# Altium footprint library lpc54110.PcbLib: 28 footprints (part 1 of 2)
Each footprint in its own frame and in the unit in brackets; x right, y up, seen from the top. Pads: shape width x height; smd on the part's side, far side on the other; paste and mask are expansions set on the pad; w line width, h text height; cw(c..) or ccw(c..) is an arc to the next point about the centre after c.
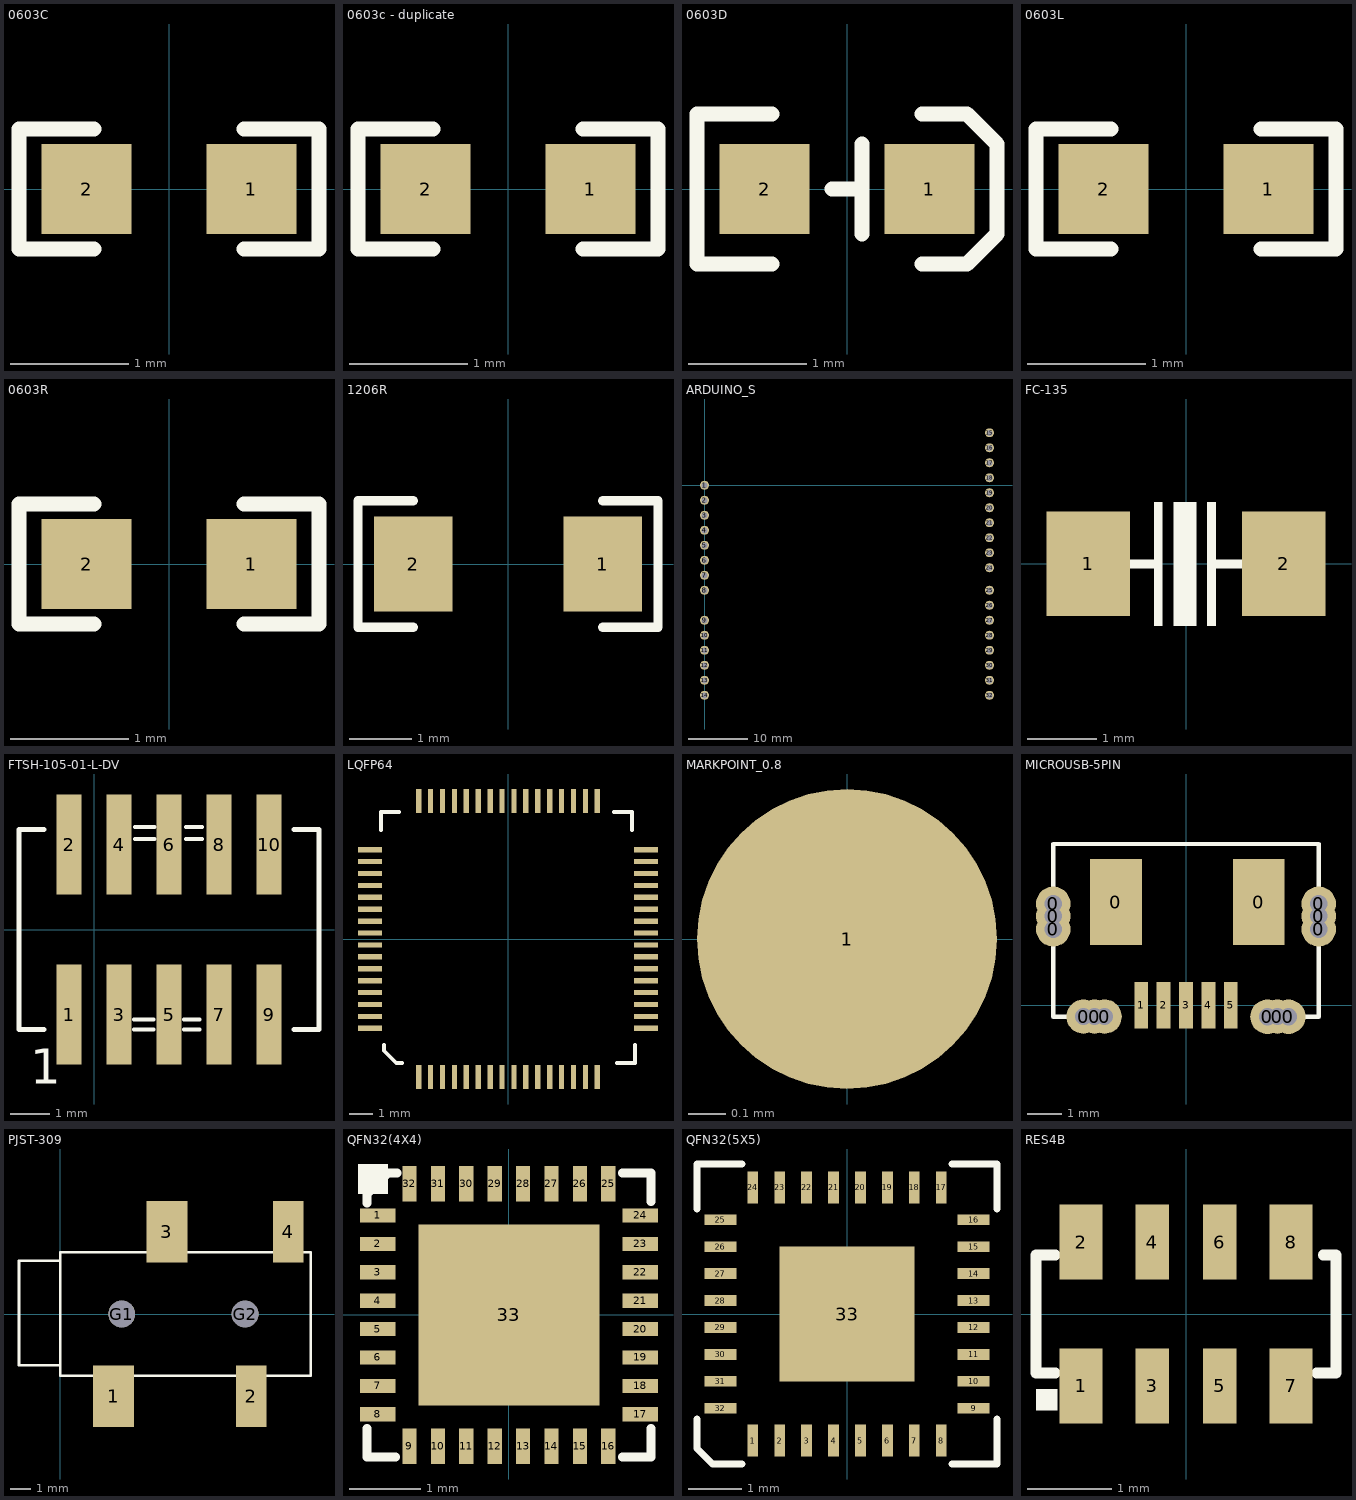
[diagram p0: the footprints below, top view; thin cyan lines are the x and y axes]

## 0603C [mil]
pads (2):
  rect 30x30 smd: 1(27.5,0) 2(-27.5,0)
Top Overlay:
  lines w5: -25,-20 -50,-20 -50,20 -25,20 ; 25,-20 50,-20 50,20 25,20

## 0603c - duplicate [mil]
pads (2):
  rect 30x30 smd: 1(27.5,0) 2(-27.5,0)
Top Overlay:
  lines w5: -25,-20 -50,-20 -50,20 -25,20 ; 25,-20 50,-20 50,20 25,20

## 0603D [mil]
pads (2):
  rect 30x30 smd: 1(27.5,0) 2(-27.5,0)
Top Overlay:
  lines w5: -25,-25 -50,-25 -50,25 -25,25 ; -5,0 5,0 ; 5,-15 5,15 ; 25,-25 40,-25 50,-15 50,15 40,25 25,25

## 0603L [mil]
pads (2):
  rect 30x30 smd: 1(27.5,0) 2(-27.5,0)
Top Overlay:
  lines w5: -25,-20 -50,-20 -50,20 -25,20 ; 25,-20 50,-20 50,20 25,20

## 0603R [mil]
pads (2):
  rect 30x30 smd: 1(27.5,0) 2(-27.5,0)
Top Overlay:
  lines w5: -25,-20 -50,-20 -50,20 -25,20 ; 25,-20 50,-20 50,20 25,20

## 1206R [mil]
pads (2):
  rect 50x60 smd: 1(60,0) 2(-60,0)
Top Overlay:
  lines w6: -60,-40 -95,-40 -95,40 -60,40 ; 60,-40 95,-40 95,40 60,40

## ARDUINO_S [mil]
pads (32):
  round 60 hole 40: 1(0,0) 2(0,-100) 3(0,-200) 4(0,-300) 5(0,-400) 6(0,-500) 7(0,-600) 8(0,-700) 9(0,-900) 10(0,-1000) 11(0,-1100) 12(0,-1200) 13(0,-1300) 14(0,-1400) 15(1900,350) 16(1900,250) 17(1900,150) 18(1900,50) 19(1900,-50) 20(1900,-150) 21(1900,-250) 22(1900,-350) 23(1900,-450) 24(1900,-550) 25(1900,-700) 26(1900,-800) 27(1900,-900) 28(1900,-1000) 29(1900,-1100) 30(1900,-1200) 31(1900,-1300) 32(1900,-1400)
Bottom Overlay:
  lines w6: -50,-860 -50,-850 ; -50,-50 50,-50 ; -50,40 -50,50 ; 1850,-660 1850,-650 ; 1850,390 1850,400 ; -50,-850 -50,-1450 50,-1450 50,-850 -50,-850 ; -50,50 50,50 50,-750 -50,-750 -50,50 ; 1850,-650 1950,-650 1950,-1450 1850,-1450 1850,-650 ; 1850,400 1850,-600 1950,-600 1950,400 1850,400

## FC-135 [mm]
pads (2):
  rect 1.2x1.5 smd: 1(-1.4,0) 2(1.4,0)
Top Overlay:
  rectangle: -0.055,-0.89 0.072,0.888
  rectangle: -0.461,-0.89 -0.334,0.888
  rectangle: 0.301,-0.89 0.428,0.888
  rectangle: -0.182,-0.89 -0.055,0.888
  rectangle: 0.021,-0.89 0.148,0.888
  lines w0.127: -0.787,0 -0.406,0 ; 0.406,0 0.787,0

## FTSH-105-01-L-DV [mil]
pads (10):
  rect 25x100 smd: 1(-25,-85) 2(-25,85) 3(25,-85) 4(25,85) 5(75,-85) 6(75,85) 7(125,-85) 8(125,85) 9(175,-85) 10(175,85)
Top Overlay:
  lines w4: 40,-100 59.69,-100 ; 40,-90 59.69,-90 ; 40.95,90.55 60.63,90.55 ; 40.95,102.36 60.63,102.36 ; 90,-100 105.75,-100 ; 90,-90 105.75,-90 ; 92.13,90.55 107.87,90.55 ; 92.13,102.36 107.87,102.36
  lines w5: -50,-100 -75,-100 -75,100 -50,100 ; 200,-100 225,-100 225,100 200,100
  text "1" at -64,-154 h35

## LQFP64 [mm]
pads (64):
  rect 0.22x1 smd: 1(-3.75,-5.8) 2(-3.25,-5.8) 3(-2.75,-5.8) 4(-2.25,-5.8) 5(-1.75,-5.8) 6(-1.25,-5.8) 7(-0.75,-5.8) 8(-0.25,-5.8) 9(0.25,-5.8) 10(0.75,-5.8) 11(1.25,-5.8) 12(1.75,-5.8) 13(2.25,-5.8) 14(2.75,-5.8) 15(3.25,-5.8) 16(3.75,-5.8) 33(3.75,5.8) 34(3.25,5.8) 35(2.75,5.8) 36(2.25,5.8) 37(1.75,5.8) 38(1.25,5.8) 39(0.75,5.8) 40(0.25,5.8) 41(-0.25,5.8) 42(-0.75,5.8) 43(-1.25,5.8) 44(-1.75,5.8) 45(-2.25,5.8) 46(-2.75,5.8) 47(-3.25,5.8) 48(-3.75,5.8)
  rect 1x0.22 smd: 17(5.8,-3.75) 18(5.8,-3.25) 19(5.8,-2.75) 20(5.8,-2.25) 21(5.8,-1.75) 22(5.8,-1.25) 23(5.8,-0.75) 24(5.8,-0.25) 25(5.8,0.25) 26(5.8,0.75) 27(5.8,1.25) 28(5.8,1.75) 29(5.8,2.25) 30(5.8,2.75) 31(5.8,3.25) 32(5.8,3.75) 49(-5.8,3.75) 50(-5.8,3.25) 51(-5.8,2.75) 52(-5.8,2.25) 53(-5.8,1.75) 54(-5.8,1.25) 55(-5.8,0.75) 56(-5.8,0.25) 57(-5.8,-0.25) 58(-5.8,-0.75) 59(-5.8,-1.25) 60(-5.8,-1.75) 61(-5.8,-2.25) 62(-5.8,-2.75) 63(-5.8,-3.25) 64(-5.8,-3.75)
Top Overlay:
  lines w0.152: -5.334,4.572 -5.334,5.334 -4.572,5.334 ; -5.207,-4.445 -5.207,-4.699 -4.699,-5.207 -4.445,-5.207 ; 4.445,5.334 5.207,5.334 5.207,4.572 ; 4.572,-5.207 5.334,-5.207 5.334,-4.445

## MARKPOINT_0.8 [mm]
pads (1):
  round 0.8 smd: 1(0,0)

## MICROUSB-5PIN [mm]
pads (19):
  round 1 hole 0.5: 0(-3.85,2.206) 0(-3.85,2.591) 0(-3.85,2.946) 0(-2.972,-0.325) 0(-2.65,-0.325) 0(-2.362,-0.325) 0(2.362,-0.33) 0(2.65,-0.325) 0(2.972,-0.33) 0(3.85,2.206) 0(3.85,2.591) 0(3.85,2.946)
  rect 1.5x2.5 smd: 0(-2.032,2.997) 0(2.108,2.997)
  rect 0.4x1.35 smd: 1(-1.3,0) 2(-0.65,0) 3(0,0) 4(0.65,0) 5(1.3,0)
Top Overlay:
  lines w0.127: -2.65,-0.325 -3.85,-0.325 -3.85,4.68 3.85,4.68 3.85,-0.325 2.65,-0.325

## PJST-309 [mm]
pads (6):
  rect 2x3 smd mask-0.6: 1(2.6,-4) 3(5.2,4)
  rect 1.5x3 smd mask-0.4: 2(9.3,-4) 4(11.1,4)
  round 1.3 hole 1.3 unplated: G1(3,0) G2(9,0)
Top Overlay:
  lines w0.127: 0,-2.5 -2,-2.5 -2,2.6 0,2.6 ; 0,-3 0,3 12.2,3 12.2,-3 0,-3

## QFN32(4X4) [mm]
pads (33):
  rect 0.5x0.2 smd: 1(-1.85,1.4) 2(-1.85,1) 3(-1.85,0.6) 4(-1.85,0.2) 5(-1.85,-0.2) 6(-1.85,-0.6) 7(-1.85,-1) 8(-1.85,-1.4) 17(1.85,-1.4) 18(1.85,-1) 19(1.85,-0.6) 20(1.85,-0.2) 21(1.85,0.2) 22(1.85,0.6) 23(1.85,1) 24(1.85,1.4)
  rect 0.2x0.5 smd: 9(-1.4,-1.85) 10(-1,-1.85) 11(-0.6,-1.85) 12(-0.2,-1.85) 13(0.2,-1.85) 14(0.6,-1.85) 15(1,-1.85) 16(1.4,-1.85) 25(1.4,1.85) 26(1,1.85) 27(0.6,1.85) 28(0.2,1.85) 29(-0.2,1.85) 30(-0.6,1.85) 31(-1,1.85) 32(-1.4,1.85)
  rect 2.55x2.55 smd: 33(0,0)
Top Overlay:
  region: -2.125,2.125 -2.125,1.7 -1.7,1.7 -1.7,2.125
  lines w0.127: -2,-1.6 -2,-2 -1.6,-2 ; -2,1.575 -2,1.7 -1.7,2 -1.575,2 ; 1.6,-2 2,-2 2,-1.6 ; 1.6,2 2,2 2,1.6

## QFN32(5X5) [mm]
pads (33):
  rect 0.2x0.6 smd: 1(-1.75,-2.35) 2(-1.25,-2.35) 3(-0.75,-2.35) 4(-0.25,-2.35) 5(0.25,-2.35) 6(0.75,-2.35) 7(1.25,-2.35) 8(1.75,-2.35) 17(1.75,2.35) 18(1.25,2.35) 19(0.75,2.35) 20(0.25,2.35) 21(-0.25,2.35) 22(-0.75,2.35) 23(-1.25,2.35) 24(-1.75,2.35)
  rect 0.6x0.2 smd: 9(2.35,-1.75) 10(2.35,-1.25) 11(2.35,-0.75) 12(2.35,-0.25) 13(2.35,0.25) 14(2.35,0.75) 15(2.35,1.25) 16(2.35,1.75) 25(-2.35,1.75) 26(-2.35,1.25) 27(-2.35,0.75) 28(-2.35,0.25) 29(-2.35,-0.25) 30(-2.35,-0.75) 31(-2.35,-1.25) 32(-2.35,-1.75)
  rect 2.5x2.5 smd: 33(0,0)
Top Overlay:
  lines w0.127: -2.787,-1.95 -2.787,-2.5 -2.5,-2.787 -1.95,-2.787 ; -2.787,1.95 -2.787,2.787 -1.95,2.787 ; 1.95,-2.787 2.787,-2.787 2.787,-1.95 ; 1.95,2.787 2.787,2.787 2.787,1.95

## RES4B [mil]
pads (8):
  rect 20x35 smd: 1(-49,-33.5) 2(-49,33.5) 7(49,-33.5) 8(49,33.5)
  rect 15.75x35 smd: 3(-15.75,-33.5) 4(-15.75,33.5) 5(15.75,-33.5) 6(15.75,33.5)
Top Overlay:
  rectangle: -70,-45 -60,-35
  lines w5: -70,-27.5 -70,27.5 -61,27.5 ; -69,-27.5 -61,-27.5 ; 61,-27.5 70,-27.5 70,27.5 64,27.5